# Altium integrated library S5B-EH.IntLib: 1 symbol
Pins are listed as number, name and electrical type; pins without a type are passive.

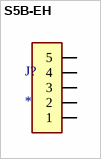
[diagram p0: symbol S5B-EH]

## S5B-EH
designator J?
Connector Header Through Hole, Right Angle 5 position 0.098 (2.50mm); MF: JST Sales; MP: S5B-EH; SnapEDA_Link: https://www.snapeda.com/parts/S5B-EH/JST/view-part/?ref=snap; Package: None; Value: *; Check_prices: https://www.snapeda.com/parts/S5B-EH/JST/view-part/?ref=eda
footprint JST_S5B-EH
pins: 1, 2, 3, 4, 5